# Altium footprint library MitchSwitch_Bypass.PCBLIB: 270 footprints (part 2 of 17)
Each footprint in its own frame and in the unit in brackets; x right, y up, seen from the top. Pads: shape width x height; smd on the part's side, far side on the other; paste and mask are expansions set on the pad; w line width, h text height; cw(c..) or ccw(c..) is an arc to the next point about the centre after c.
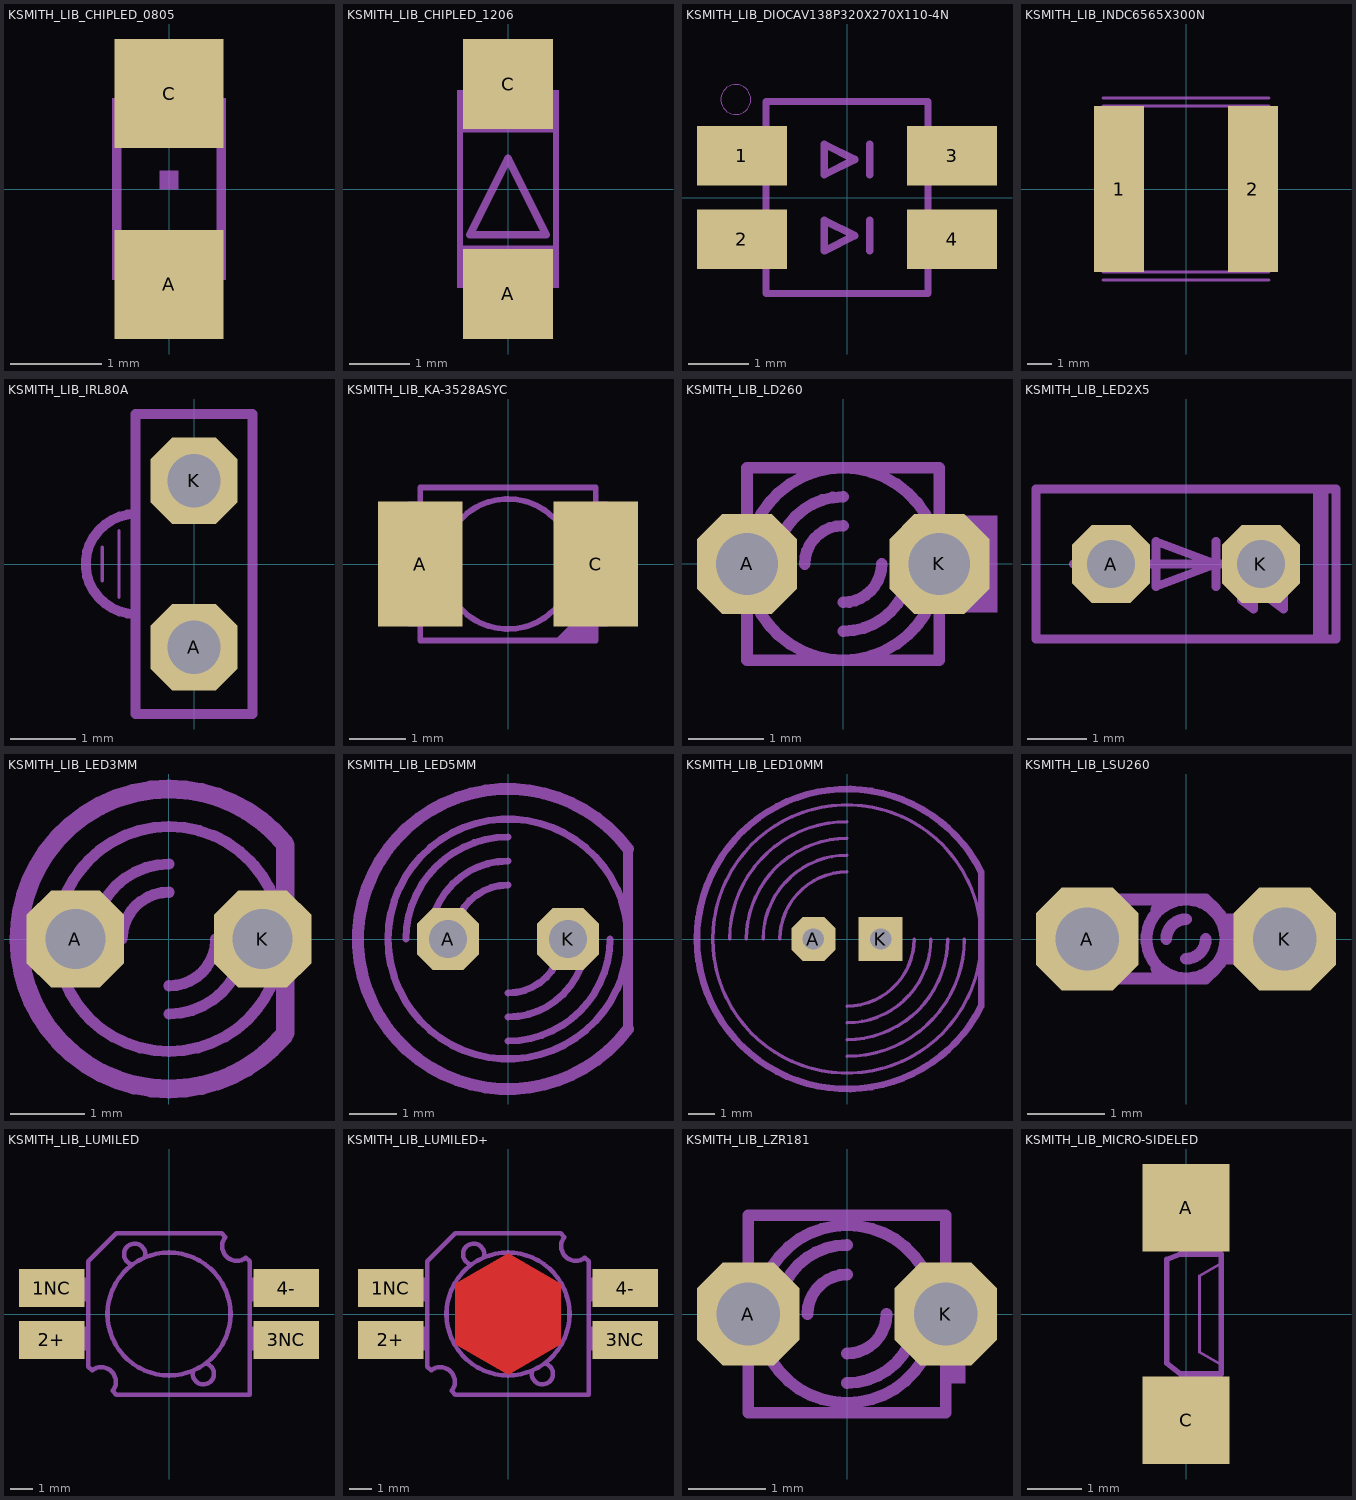
[diagram p1: the footprints below, top view; thin cyan lines are the x and y axes]

## KSMITH_LIB_CHIPLED_0805 [mil]
pads (2):
  rect 47.24x47.24 smd: A(0,-41.34) C(0,41.34)
Mechanical 3:
  circle w4: c-17.72,33.46 r4.06
  region: 11.81,19.69 11.81,39.37 24.61,39.37 24.61,19.69
  region: -12.8,19.69 -12.8,29.53 -6.89,29.53 -6.89,19.69
  region: 6.89,19.69 6.89,29.53 12.8,29.53 12.8,19.69
  region: -7.87,19.69 -7.87,26.57 7.87,26.57 7.87,19.69
  region: 11.81,-39.37 11.81,-19.69 24.61,-19.69 24.61,-39.37
  region: -24.61,-39.37 -24.61,-19.69 -11.81,-19.69 -11.81,-39.37
  region: 6.89,-29.53 6.89,-19.69 12.8,-19.69 12.8,-29.53
  region: -12.8,-29.53 -12.8,-19.69 -6.89,-19.69 -6.89,-29.53
  region: -7.87,-26.57 -7.87,-19.69 7.87,-19.69 7.87,-26.57
  region: -23.62,19.69 -23.62,31.5 -11.81,31.5 -11.81,19.69
  region: -24.61,36.42 -24.61,39.37 -11.81,39.37 -11.81,36.42
  lines w4: -22.64,-19.69 -22.64,36.42 ; -13.78,-36.42 cw(c0,-38.55) 13.78,-36.42 ; -13.78,36.42 ccw(c0,38.55) 13.78,36.42 ; 22.64,-20.67 22.64,20.67
Mechanical 7:
  region: -3.94,0 -3.94,7.87 3.94,7.87 3.94,0

## KSMITH_LIB_CHIPLED_1206 [mil]
pads (2):
  rect 59.06x59.06 smd: A(0,-68.9) C(0,68.9)
Mechanical 3:
  circle w4: c-21.65,56.1 r3.94
  region: -33.46,60.04 -33.46,64.96 -13.78,64.96 -13.78,60.04
  region: -33.46,48.23 -33.46,61.02 -24.61,61.02 -24.61,48.23
  region: -17.72,48.23 -17.72,57.09 -12.8,57.09 -12.8,48.23
  region: -25.59,48.23 -25.59,53.15 -8.86,53.15 -8.86,48.23
  region: 13.78,51.18 13.78,64.96 33.46,64.96 33.46,51.18
  region: 9.84,48.23 9.84,53.15 33.46,53.15 33.46,48.23
  region: -33.46,37.4 -33.46,49.21 33.46,49.21 33.46,37.4
  region: -33.46,-64.96 -33.46,-37.4 33.46,-37.4 33.46,-64.96
  lines w4: -31.5,-37.4 -31.5,37.4 ; -15.75,62.99 ccw(c0,64.01) 15.75,62.99 ; 31.5,-37.4 31.5,37.4
Mechanical 7:
  lines w5: -25,-30 25,-30 0,20 -25,-30

## KSMITH_LIB_DIOCAV138P320X270X110-4N [mil]
pads (4):
  rect 59x39 smd: 1(-69,27.5) 2(-69,-27.5) 3(69,27.5) 4(69,-27.5)
Mechanical 3:
  lines w4.72: -53.15,-62.99 53.15,-62.99 53.15,62.99 -53.15,62.99 -53.15,-62.99
Mechanical 7:
  circle w0: c-72.99,64.38 r9.84
  lines w4.72: -53.15,-54.54 -53.15,-62.99 53.15,-62.99 53.15,-54.54 ; -53.15,54.54 -53.15,62.99 53.15,62.99 53.15,54.54
  lines w5: 15,-35 15,-15 ; 15,15 15,35 ; -15,-35 5,-25 -15,-15 -15,-35 ; -15,15 -15,35 5,25 -15,15

## KSMITH_LIB_INDC6565X300N [mil]
pads (2):
  rect 79.94x266.23 smd: 1(-106.93,0) 2(106.93,0)
Mechanical 3:
  lines w4.72: -132.87,-132.87 132.87,-132.87 132.87,132.87 -132.87,132.87 -132.87,-132.87
Mechanical 7:
  lines w4.72: -132.87,-145.48 132.87,-145.48 ; -132.87,145.48 132.87,145.48

## KSMITH_LIB_IRL80A [mil]
pads (2):
  oct 52x52 / inner round 48.04 / far side oct 52x52 hole 32: A(0,-50) K(0,50)
Mechanical 3:
  lines w6: -35,-70 -35,-30 ; -35,30 -35,70 ; 35,-70 35,-25 ; 35,30 35,70
Mechanical 7:
  lines w2: -55,-10 -55,10 ; -45,-20 -45,20
  lines w6: -35,-70 -35,-90 35,-90 35,-70 ; -35,70 -35,90 35,90 35,70 ; 35,-25 35,30 ; -35,-30 -35,30 ccw(c-35,0) -35,-30

## KSMITH_LIB_KA-3528ASYC [mil]
pads (2):
  rect 59.06x86.61 smd: A(-61.02,0) C(61.02,0)
Mechanical 3:
  circle w4: c0,0 r45.28
  region: -68.9,23.62 -68.9,43.31 -62.99,43.31 -62.99,23.62
  region: -68.9,-43.31 -68.9,-23.62 -62.99,-23.62 -62.99,-43.31
  region: 68.9,-23.62 68.9,-43.31 62.99,-43.31 62.99,-23.62
  region: 68.9,43.31 68.9,23.62 62.99,23.62 62.99,43.31
  region: 61.02,-53.15 61.02,-24.61 32.48,-53.15
  lines w4: -61.02,-53.15 -61.02,53.15 ; 61.02,-53.15 61.02,53.15
Mechanical 7:
  region: 61.02,-53.15 61.02,-46.26 39.37,-46.26 32.48,-53.15
  lines w4: -61.02,-53.15 61.02,-53.15 ; -61.02,53.15 61.02,53.15 ; -25.59,-37.4 ccw(c0,0.25) 25.59,-37.4 ; -25.59,37.4 cw(c0,-0.25) 25.59,37.4

## KSMITH_LIB_LD260 [mil]
pads (2):
  oct 52x52 / inner round 48.04 / far side oct 52x52 hole 32: A(-50,0) K(50,0)
Mechanical 3:
  region: 50,-25 50,25 80,25 80,-25
  lines w6: -50,-35 -50,0 ; -50,35 -50,0 ; -37.96,-32.54 cw(c0,0) -50,0 ; -37.96,32.54 ccw(c0,0) -50,0 ; -35,0 cw(c0,0) 0,35 ; -20,0 cw(c0,0) 0,20 ; 0,-35 ccw(c0,0) 35,0 ; 37.63,-32.93 ccw(c-0.01,0) 50,0 ; 38.41,32.01 cw(c0,0) 50,0 ; 50,-35 50,0 ; 50,35 50,0
Mechanical 7:
  region: 75,-25 75,25 80,25 80,-25
  lines w6: -50,-35 -50,-50 0,-50 ; -50,35 -50,50 0,50 ; -39.04,-31.24 ccw(c0,-0.01) 0,-50 ; -39.04,31.24 cw(c0,0.01) 0,50 ; 0,-20 ccw(c0,0) 20,0 ; 39.04,-31.24 cw(c0,-0.01) 0,-50 ; 39.04,31.24 ccw(c0,0.01) 0,50 ; 50,-35 50,-50 0,-50 ; 50,35 50,50 0,50

## KSMITH_LIB_LED2X5 [mil]
pads (2):
  oct 52x52 / inner round 48.04 / far side oct 52x52 hole 32: A(-50,0) K(50,0)
Mechanical 3:
  lines w6: -75,0 20,0 ; 20,-15 20,0 ; 20,15 20,0 ; 35,-10 45,-30 ; 55,-10 65,-30 ; 70,0 20,0 ; 20,0 -20,15 -20,-15 20,0 ; 45,-30 45,-20 37,-24 45,-30 ; 65,-30 65,-20 57,-24 65,-30
Mechanical 7:
  region: 85,-50 85,50 95,50 95,-50
  lines w6: -100,-50 100,-50 100,50 -100,50 -100,-50

## KSMITH_LIB_LED3MM [mil]
pads (2):
  oct 52x52 / inner round 48.04 / far side oct 52x52 hole 32: A(-50,0) K(50,0)
Mechanical 3:
  lines w6: -46.09,38.41 ccw(c0,-0.01) -60,0 ccw(c0,-0.01) -44.85,-39.86 ; -40,0 cw(c0,0) 0,40 ; -25,0 cw(c0,0) 0,25 ; 0,-40 ccw(c0,0) 40,0 ; 0,-25 ccw(c0,0) 25,0 ; 45.56,39.05 cw(c0,0.01) 60,0 cw(c0,0.01) 46.09,-38.41
  lines w10: -70.44,37.93 ccw(c0,0.01) -80,0 ccw(c0,0) -68.13,-41.93 ; 62,-50 62,50
Mechanical 7:
  lines w6: -48,36 cw(c0,0) 0,60 cw(c-0.01,0) 48.82,34.87 ; -47.36,-36.83 ccw(c0.01,0) 0,-60 ccw(c-0.01,0) 47.36,-36.83
  lines w10: -70.59,37.65 cw(c0,0) 0,80 cw(c0.01,0) 61.46,51.22 ; -69.46,-39.69 ccw(c0,0) 0,-80 ccw(c0,0) 61.07,-51.68

## KSMITH_LIB_LED5MM [mil]
pads (2):
  oct 52x52 / inner round 48.04 / far side oct 52x52 hole 32: A(-50,0) K(50,0)
Mechanical 3:
  lines w6: -85,0 cw(c0,0) 0,85 ; -65,0 cw(c0,0) 0,65 ; -45,0 cw(c0,0) 0,45 ; 0,-85 ccw(c0,0) 85,0 ; 0,-65 ccw(c0,0) 65,0 ; 0,-45 ccw(c0,0) 45,0
Mechanical 7:
  circle w6: c0,0 r100
  lines w8: 100,-75 100,75
  lines w10: 100,-75 cw(c0,0) 100,75

## KSMITH_LIB_LED10MM [mil]
pads (2):
  oct 66x66 / inner round 60.98 / far side oct 66x66 hole 32: A(-50,0)
  rect 66x66 / inner round 60.98 / far side rect 66x66 hole 32: K(50,0)
Mechanical 7:
  circle w5: c0,0 r200
  lines w5: -175,0 cw(c0,0) 0,175 ; -150,0 cw(c0,0) 0,150 ; -125,0 cw(c0,0) 0,125 ; -100,0 cw(c0,0) 0,100 ; 0,-175 ccw(c0,0) 175,0 ; 0,-150 ccw(c0,0) 150,0 ; 0,-125 ccw(c0,0) 125,0 ; 0,-100 ccw(c0,0) 100,0
  lines w10: 200,-100 cw(c0,0) 200,100 200,-100

## KSMITH_LIB_LSU260 [mil]
pads (2):
  oct 52x52 / inner round 48.04 / far side oct 52x52 hole 32: A(-50,0) K(50,0)
Mechanical 3:
  circle w6: c0,0 r20
  region: -55,-10 -55,10 -45,10 -45,-10
  region: 20,-10 20,10 55,10 55,-10
  lines w6: 0,-20 -45,-20 -45,-10 ; 0,20 -45,20 -45,10 ; 20,-10 55,-10 55,10 20,10 ; -45,-10 -55,-10 -55,10 -45,10 ; -45,-10 -45,10
Mechanical 7:
  lines w6: -15,-15 -10,-20 10,-20 15,-15 ccw(c0,0) 15,15 10,20 -10,20 -15,15 ; -10,0 cw(c0,0) 0,10 ; 0,-10 ccw(c0,0) 10,0

## KSMITH_LIB_LUMILED [mil]
pads (4):
  rect 114.17x66.93 smd: 1NC(-204.72,45.28) 2+(-204.72,-45.28) 3NC(204.72,-45.28) 4-(204.72,45.28)
Top Paste:
  region: 92.06,53.15 0,106.3 -92.06,53.15 -92.06,-53.15 0,-106.3 92.06,-53.15
Top Solder:
  region: 92.06,53.15 0,106.3 -92.06,53.15 -92.06,-53.15 0,-106.3 92.06,-53.15
Mechanical 3:
  circle w8: c0,0 r107.28
  region: -235.24,22.64 -235.24,62.99 -142.72,62.99 -142.72,22.64
  region: -235.24,-62.99 -235.24,-22.64 -142.72,-22.64 -142.72,-62.99
  region: 235.24,-22.64 235.24,-62.99 142.72,-62.99 142.72,-22.64
  region: 235.24,62.99 235.24,22.64 142.72,22.64 142.72,62.99
Mechanical 7:
  lines w8: -67.91,87.6 cw(c-60.01,104.33) -41.83,100.89 ; 41.83,-100.89 ccw(c60.01,-104.33) 67.91,-87.6 ; -140.75,-92.03 -134.35,-98.43 cw(c-118.37,-118.37) -98.43,-134.35 -92.03,-140.75 140.75,-140.75 140.75,92.03 134.35,98.43 cw(c118.37,118.37) 98.43,134.35 92.03,140.75 -92.03,140.75 -140.75,92.03 -140.75,-92.03

## KSMITH_LIB_LUMILED+ [mil]
pads (4):
  rect 114.17x66.93 smd: 1NC(-204.72,45.28) 2+(-204.72,-45.28) 3NC(204.72,-45.28) 4-(204.72,45.28)
Top Layer:
  region: 92.06,53.15 0,106.3 -92.06,53.15 -92.06,-53.15 0,-106.3 92.06,-53.15
Top Paste:
  region: 92.06,53.15 0,106.3 -92.06,53.15 -92.06,-53.15 0,-106.3 92.06,-53.15
Top Solder:
  region: 92.06,53.15 0,106.3 -92.06,53.15 -92.06,-53.15 0,-106.3 92.06,-53.15
Mechanical 3:
  circle w8: c0,0 r107.28
  region: -235.24,22.64 -235.24,62.99 -142.72,62.99 -142.72,22.64
  region: -235.24,-62.99 -235.24,-22.64 -142.72,-22.64 -142.72,-62.99
  region: 235.24,-22.64 235.24,-62.99 142.72,-62.99 142.72,-22.64
  region: 235.24,62.99 235.24,22.64 142.72,22.64 142.72,62.99
Mechanical 7:
  lines w8: -67.91,87.6 cw(c-60.01,104.33) -41.83,100.89 ; 41.83,-100.89 ccw(c60.01,-104.33) 67.91,-87.6 ; -140.75,-92.03 -134.35,-98.43 cw(c-118.37,-118.37) -98.43,-134.35 -92.03,-140.75 140.75,-140.75 140.75,92.03 134.35,98.43 cw(c118.37,118.37) 98.43,134.35 92.03,140.75 -92.03,140.75 -140.75,92.03 -140.75,-92.03

## KSMITH_LIB_LZR181 [mil]
pads (2):
  oct 52x52 / inner round 48.04 / far side oct 52x52 hole 32: A(-50,0) K(50,0)
Mechanical 3:
  region: 50,-35 50,10 60,10 60,-35
  region: -60,-10 -60,10 -50,10 -50,-10
  lines w6: -50,-35 -50,35 ; -35,0 cw(c0,0) 0,35 ; -34.17,-29.29 cw(c0,-0.01) -45,0 cw(c0,0.01) -34.17,29.29 ; -20,0 cw(c0,0) 0,20 ; 0,-35 ccw(c0,0) 35,0 ; 34.17,-29.29 ccw(c0,-0.01) 45,0 ccw(c0,0.01) 34.17,29.29 ; 50,-35 50,35
Mechanical 7:
  lines w6: -50,-35 -50,-50 50,-50 50,-35 ; -50,35 -50,50 50,50 50,35 ; -34.17,-29.29 ccw(c-0.01,0) 0,-45 ccw(c0.01,0) 34.17,-29.29 ; -34.17,29.29 cw(c-0.01,0) 0,45 cw(c0.01,0) 34.17,29.29 ; 0,-20 ccw(c0,0) 20,0

## KSMITH_LIB_MICRO-SIDELED [mil]
pads (2):
  rect 62.99x62.99 smd paste+0 mask+0: A(0,76.77) C(0,-76.77)
Top Paste:
  region: -13.78,-68.9 -13.78,-45.28 13.78,-45.28 13.78,-68.9
  region: -13.78,45.28 -13.78,68.9 13.78,68.9 13.78,45.28
Top Solder:
  region: -15.75,43.31 -15.75,70.87 15.75,70.87 15.75,43.31
  region: -15.75,-70.87 -15.75,-43.31 15.75,-43.31 15.75,-70.87
Mechanical 3:
  region: -4.92,44.29 -4.92,68.9 4.92,68.9 4.92,44.29
  region: -4.92,-68.9 -4.92,-44.29 4.92,-44.29 4.92,-68.9
  lines w4: -13.78,-35.43 -3.94,-43.31 25.59,-43.31 ; -13.78,39.37 -3.94,43.31 25.59,43.31
Mechanical 7:
  lines w2: 23.62,-35.43 9.84,-27.56 9.84,27.56 23.62,35.43
  lines w4: -13.78,-35.43 -13.78,39.37 ; 25.59,-43.31 25.59,43.31